# Altium integrated library Linear Technology Power Management LED Driver ICs.IntLib: 490 symbols (part 22 of 48)
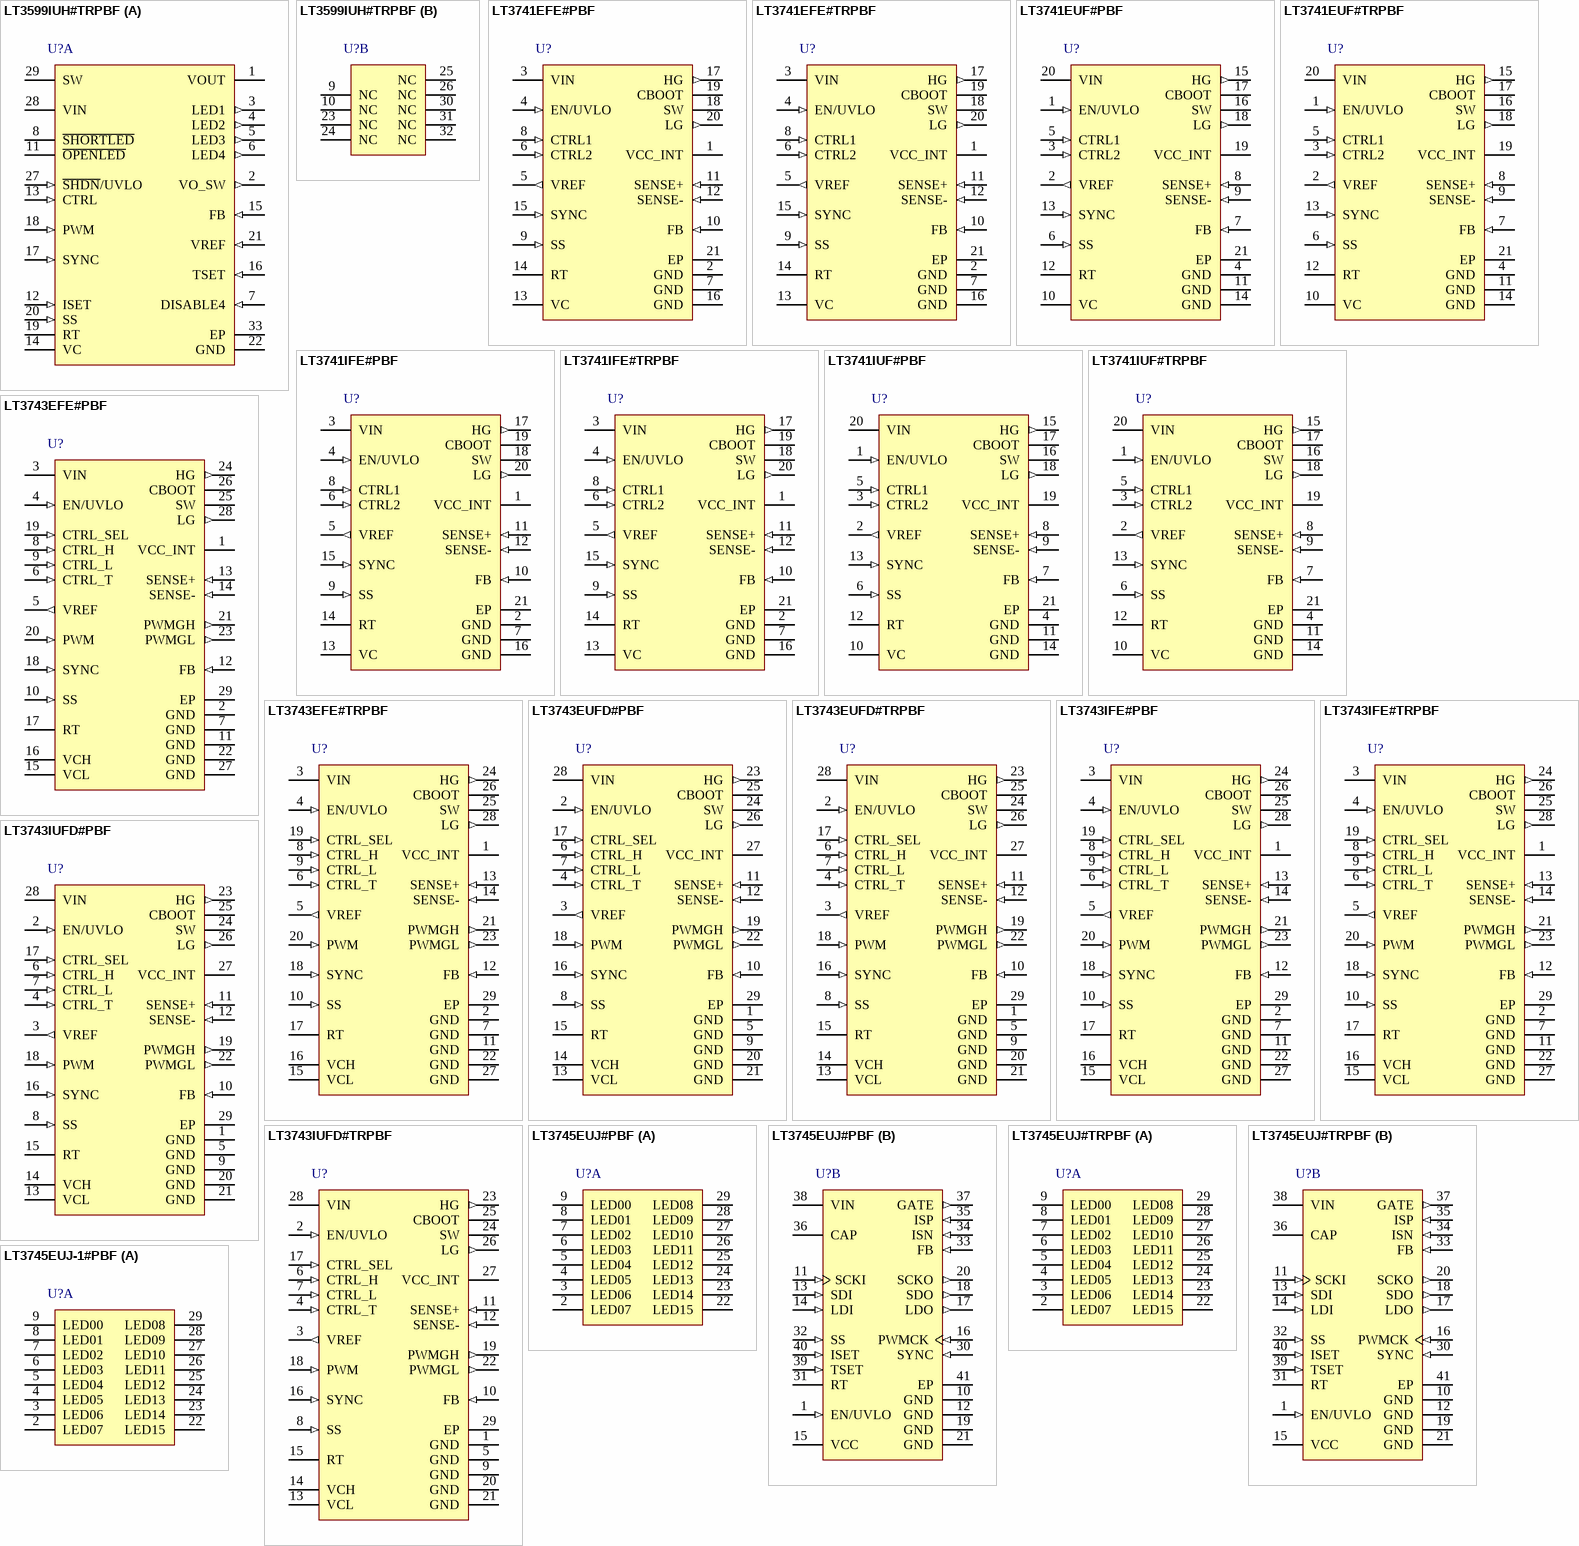
[diagram p41: symbols LT3599IUH#TRPBF to LT3745EUJ-1#PBF]

## LT3743EUFD#PBF
designator U?
High Current Synchronous Step-Down LED Driver with Three-State Control, 6 to 36 V Vin, 28-pin QFN (UFD-28), -40 to 125 degC, Pb-Free; Manufacturer: Linear Technology; PartNumber: LT3743EUFD#PBF; Topology: Buck, LED Driver; Vin Min(V): 6; DatasheetVersion: Rev. D; PackageVersion: Rev. B, 06/2010; PackageReference: UFD-28; PackageDescription: 28-Pin Plastic QFN, Body 5 x 4 mm, Pitch 0.5 mm; Supplier 1: Digi-Key; Supplier Part Number 1: LT3743EUFD#PBF-ND; Supplier 2: Farnell; Supplier Part Number 2: 1839163; Supplier 3: Newark; Supplier Part Number 3: 52R9877; RoHS: TRUE; Mounting Technology: Surface Mount; Code_JEDEC: MO-220; ComponentLink1Description: Manufacturer URL; ComponentLink1URL: http://www.linear.com/; ComponentLink2Description: Datasheet; ComponentLink2URL: http://cds.linear.com/docs/en/datasheet/3743fd.pdf; ComponentLink3Description: Package Specification; ComponentLink3URL: http://cds.linear.com/docs/en/packaging/QFN_28_05-08-1712.pdf
footprint LT-UFD-28_N (QFN, 28-Leads, Body 5.1x4.1mm, Pitch 0.5mm, Thermal Pad 3.65x2.65mm, IPC Medium Density)
footprint LT-UFD-28_L (QFN, 28-Leads, Body 5.1x4.1mm, Pitch 0.5mm, Thermal Pad 3.65x2.65mm, IPC High Density)
footprint LT-UFD-28_M (QFN, 28-Leads, Body 5.1x4.1mm, Pitch 0.5mm, Thermal Pad 3.65x2.65mm, IPC Low Density)
pins: 1 GND (power) "Ground.", 2 EN/UVLO (in) "Enable Pin. The EN / UVLO pin acts as an enable pin and turns on the internal current bias core and subregulators at 1.55 V. The pin does not have any pull-up or pull-down, requiring a voltage bias for normal part operation. (See Datasheet)", 3 VREF (out) "Buffered 2 V Reference Capable of 0.5 mA Drive.", 4 CTRL_T (in) "The thermal control input to reduce the regulated current level for both current levels (CTRL_L and CTRL_H).", 5 GND (power) "Ground.", 6 CTRL_H (in) "The CTRL_H pin sets the high level regulated output current and overcurrent. The maximum input voltage is internally clamped to 1.5 V. The overcurrent set point is equal to the high level regulated current level set by the (See Datasheet)", 7 CTRL_L (in) "The CTRL_L pin sets the low level regulated output current. It is not recommended that the CTRL_L voltage be higher than the CTRL_H voltage.", 8 SS (in) "Soft-Start Pin. Place an external capacitor to ground to limit the regulated current during start-up conditions. The SS pin has a 5.5 uA charging current. This pin controls both of the regulated inputs determined by CTRL_L (See Datasheet)", 9 GND (power) "Ground.", 10 FB (in) "Feedback Pin for Overvoltage Protec- tion. The feedback voltage is 1 V. Overvoltage / Open LED is sensed through the FB pin. When the feedback voltage exceeds 1.3 V, the overvoltage lockout prevents switching and connects (See Datasheet)", 11 SENSE+ (in) "SENSE+ is the inverting input of the average current mode loop error amplifier. This pin is connected to the external current sense resistor, RS. The voltage drop between SENSE+ and SENSE- referenced to the voltage drop (See Datasheet)", 12 SENSE- (in) "SENSE- is the noninverting input of the average current mode loop error amplifier. The reference current, based on CTRL_L or CTRL_H flows out of the pin to the output (LED) side of the sense resistor, RS.", 13 VCL "VCL provides the necessary compensation for the average current loop stability during low level current regulation. Typical compensation values are 15 k to 80 k for the resistor and 2 nF to 10 nF for the capacitor.", 14 VCH "VCH provides the necessary compensation for the average current loop stability during high level current regulation. Typical compensation values are 15k to 80 k for the resistor and 2 nF to 10 nF for the capacitor.", 15 RT "A resistor to ground sets the switching frequency between 200 kHz and 1 MHz. When using the SYNC function, set the frequency to be 20% lower than the SYNC pulse frequency. This pin is current limited to 60 uA. Do not leave (See Datasheet)", 16 SYNC (in) "Frequency Synchronization Pin. This pin allows the switching frequency to be synchronized to an external clock. The RT resistor should be chosen to operate the internal clock at 20% slower than the SYNC pulse frequency. The (See Datasheet)", 17 CTRL_SEL (in) "The CTRL_SEL pin selects between the high current control, CTRL_H and the low current control, CTRL_L. When high, the V CH pin is con- nected to the error amp output and the PWMGH gate signal is high. When low, the VCL pin (See Datasheet)", 18 PWM (in) "The input pin for PWM dimming of the LED. When low, all switching is terminated and the output caps are disconnected. This pin should be pulled to VCC_INT when not in use.", 19 PWMGH (out) "The PWMGH output pin drives the gate of an external FET to connect one of the switching regulator output capacitors to the load. The driver pull-up impedance is 3.2 ohm and pull-down impedance is 1.75 ohm.", 20 GND (power) "Ground.", 21 GND (power) "Ground.", 22 PWMGL (out) "The PWMGL output pin drives the gate of an external FET to connect one of the switching regulator output capacitors to the load. The driver pull-up impedance is 3.2 ohm and pull-down impedance is 1.75 ohm.", 23 HG (out) "HG is the top FET gate drive signal that controls the state of the high side external power FET. The driver pull-up impedance is 2.3 ohm and pull-down impedance is 1.3 ohm.", 24 SW "The SW pin is used internally as the lower rail for the floating high side driver. Externally, this node connects the two power FETs and the inductor.", 25 CBOOT (power) "The CBOOT pin provides a floating 5 V regulated supply for the high side FET driver. An external Schottky diode is required from the VCC_INT pin to the CBOOT pin to charge the CBOOT capacitor when the switch pin is near (See Datasheet)", 26 LG (out) "LG is the bottom FET gate drive signal that controls the state of the low side external power FET. The driver pull-up impedance is 2.5 ohm and pull-down impedance is 1.3 ohm.", 27 VCC_INT (power) "A regulated 5 V output for charging the CBOOT capacitor. VCC_INT also provides the power for the digital and switching subcircuits. Below 6 V VIN , tie this pin to the rail. VCC_INT is current limited to  approx=50 mA. (See Datasheet)", 28 VIN (power) "Input Supply Pin. Must be locally bypassed with a 1 uF low ESR capacitor to ground.", 29 EP (power) "Ground. The exposed pad must be soldered to the PCB."

## LT3743EUFD#TRPBF
designator U?
High Current Synchronous Step-Down LED Driver with Three-State Control, 6 to 36 V Vin, 28-pin QFN (UFD-28), -40 to 125 degC, Pb-Free, Tape and Reel; Manufacturer: Linear Technology; PartNumber: LT3743EUFD#TRPBF; Topology: Buck, LED Driver; Vin Min(V): 6; DatasheetVersion: Rev. D; PackageVersion: Rev. B, 06/2010; PackageReference: UFD-28; PackageDescription: 28-Pin Plastic QFN, Body 5 x 4 mm, Pitch 0.5 mm; Supplier 1: Digi-Key; Supplier Part Number 1: LT3743EUFD#TRPBF-ND; Supplier 2: Newark; Supplier Part Number 2: 72R5829; Packing: Tape and Reel; RoHS: TRUE; Mounting Technology: Surface Mount; Code_JEDEC: MO-220; ComponentLink1Description: Manufacturer URL; ComponentLink1URL: http://www.linear.com/; ComponentLink2Description: Datasheet; ComponentLink2URL: http://cds.linear.com/docs/en/datasheet/3743fd.pdf; ComponentLink3Description: Package Specification; ComponentLink3URL: http://cds.linear.com/docs/en/packaging/QFN_28_05-08-1712.pdf
footprint LT-UFD-28_N (QFN, 28-Leads, Body 5.1x4.1mm, Pitch 0.5mm, Thermal Pad 3.65x2.65mm, IPC Medium Density)
footprint LT-UFD-28_L (QFN, 28-Leads, Body 5.1x4.1mm, Pitch 0.5mm, Thermal Pad 3.65x2.65mm, IPC High Density)
footprint LT-UFD-28_M (QFN, 28-Leads, Body 5.1x4.1mm, Pitch 0.5mm, Thermal Pad 3.65x2.65mm, IPC Low Density)
pins: 1 GND (power) "Ground.", 2 EN/UVLO (in) "Enable Pin. The EN / UVLO pin acts as an enable pin and turns on the internal current bias core and subregulators at 1.55 V. The pin does not have any pull-up or pull-down, requiring a voltage bias for normal part operation. (See Datasheet)", 3 VREF (out) "Buffered 2 V Reference Capable of 0.5 mA Drive.", 4 CTRL_T (in) "The thermal control input to reduce the regulated current level for both current levels (CTRL_L and CTRL_H).", 5 GND (power) "Ground.", 6 CTRL_H (in) "The CTRL_H pin sets the high level regulated output current and overcurrent. The maximum input voltage is internally clamped to 1.5 V. The overcurrent set point is equal to the high level regulated current level set by the (See Datasheet)", 7 CTRL_L (in) "The CTRL_L pin sets the low level regulated output current. It is not recommended that the CTRL_L voltage be higher than the CTRL_H voltage.", 8 SS (in) "Soft-Start Pin. Place an external capacitor to ground to limit the regulated current during start-up conditions. The SS pin has a 5.5 uA charging current. This pin controls both of the regulated inputs determined by CTRL_L (See Datasheet)", 9 GND (power) "Ground.", 10 FB (in) "Feedback Pin for Overvoltage Protec- tion. The feedback voltage is 1 V. Overvoltage / Open LED is sensed through the FB pin. When the feedback voltage exceeds 1.3 V, the overvoltage lockout prevents switching and connects (See Datasheet)", 11 SENSE+ (in) "SENSE+ is the inverting input of the average current mode loop error amplifier. This pin is connected to the external current sense resistor, RS. The voltage drop between SENSE+ and SENSE- referenced to the voltage drop (See Datasheet)", 12 SENSE- (in) "SENSE- is the noninverting input of the average current mode loop error amplifier. The reference current, based on CTRL_L or CTRL_H flows out of the pin to the output (LED) side of the sense resistor, RS.", 13 VCL "VCL provides the necessary compensation for the average current loop stability during low level current regulation. Typical compensation values are 15 k to 80 k for the resistor and 2 nF to 10 nF for the capacitor.", 14 VCH "VCH provides the necessary compensation for the average current loop stability during high level current regulation. Typical compensation values are 15k to 80 k for the resistor and 2 nF to 10 nF for the capacitor.", 15 RT "A resistor to ground sets the switching frequency between 200 kHz and 1 MHz. When using the SYNC function, set the frequency to be 20% lower than the SYNC pulse frequency. This pin is current limited to 60 uA. Do not leave (See Datasheet)", 16 SYNC (in) "Frequency Synchronization Pin. This pin allows the switching frequency to be synchronized to an external clock. The RT resistor should be chosen to operate the internal clock at 20% slower than the SYNC pulse frequency. The (See Datasheet)", 17 CTRL_SEL (in) "The CTRL_SEL pin selects between the high current control, CTRL_H and the low current control, CTRL_L. When high, the V CH pin is con- nected to the error amp output and the PWMGH gate signal is high. When low, the VCL pin (See Datasheet)", 18 PWM (in) "The input pin for PWM dimming of the LED. When low, all switching is terminated and the output caps are disconnected. This pin should be pulled to VCC_INT when not in use.", 19 PWMGH (out) "The PWMGH output pin drives the gate of an external FET to connect one of the switching regulator output capacitors to the load. The driver pull-up impedance is 3.2 ohm and pull-down impedance is 1.75 ohm.", 20 GND (power) "Ground.", 21 GND (power) "Ground.", 22 PWMGL (out) "The PWMGL output pin drives the gate of an external FET to connect one of the switching regulator output capacitors to the load. The driver pull-up impedance is 3.2 ohm and pull-down impedance is 1.75 ohm.", 23 HG (out) "HG is the top FET gate drive signal that controls the state of the high side external power FET. The driver pull-up impedance is 2.3 ohm and pull-down impedance is 1.3 ohm.", 24 SW "The SW pin is used internally as the lower rail for the floating high side driver. Externally, this node connects the two power FETs and the inductor.", 25 CBOOT (power) "The CBOOT pin provides a floating 5 V regulated supply for the high side FET driver. An external Schottky diode is required from the VCC_INT pin to the CBOOT pin to charge the CBOOT capacitor when the switch pin is near (See Datasheet)", 26 LG (out) "LG is the bottom FET gate drive signal that controls the state of the low side external power FET. The driver pull-up impedance is 2.5 ohm and pull-down impedance is 1.3 ohm.", 27 VCC_INT (power) "A regulated 5 V output for charging the CBOOT capacitor. VCC_INT also provides the power for the digital and switching subcircuits. Below 6 V VIN , tie this pin to the rail. VCC_INT is current limited to  approx=50 mA. (See Datasheet)", 28 VIN (power) "Input Supply Pin. Must be locally bypassed with a 1 uF low ESR capacitor to ground.", 29 EP (power) "Ground. The exposed pad must be soldered to the PCB."

## LT3743IFE#PBF
designator U?
High Current Synchronous Step-Down LED Driver with Three-State Control, 6 to 36 V Vin, 28-pin SOP (FE-28-EPV-EB), -40 to 125 degC, Pb-Free; Manufacturer: Linear Technology; PartNumber: LT3743IFE#PBF; Topology: Buck, LED Driver; Vin Min(V): 6; DatasheetVersion: Rev. D; PackageVersion: Rev. J, 11/2012; PackageReference: FE-28; PackageDescription: 28-Pin Plastic TSSOP, Body 9.7 x 4.4 mm, Pitch 0.65 mm; Supplier 1: Digi-Key; Supplier Part Number 1: LT3743IFE#PBF-ND; Supplier 2: Farnell; Supplier Part Number 2: 1866378; Supplier 3: Newark; Supplier Part Number 3: 72R5830; RoHS: TRUE; Mounting Technology: Surface Mount; ComponentLink1Description: Manufacturer URL; ComponentLink1URL: http://www.linear.com/; ComponentLink2Description: Datasheet; ComponentLink2URL: http://cds.linear.com/docs/en/datasheet/3743fd.pdf; ComponentLink3Description: Package Specification; ComponentLink3URL: http://cds.linear.com/docs/en/packaging/05081663__J_FE28(EB).pdf
footprint LT-FE-28-EPV-EB_N (SOP, 28-Leads, Body 9.8x4.5mm, Pitch 0.65mm, Thermal Pad 4.75x2.74mm, IPC Medium Density)
footprint LT-FE-28-EPV-EB_L (SOP, 28-Leads, Body 9.8x4.5mm, Pitch 0.65mm, Thermal Pad 4.75x2.74mm, IPC High Density)
footprint LT-FE-28-EPV-EB_M (SOP, 28-Leads, Body 9.8x4.5mm, Pitch 0.65mm, Thermal Pad 4.75x2.74mm, IPC Low Density)
pins: 1 VCC_INT (power) "A regulated 5V output for charging the CBOOT capacitor. VCC_INT also provides the power for the digital and switching subcircuits. Below 6V VIN, tie this pin to the rail. VCC_INT is current limited to  approx=50mA. Shutdown (See Datasheet)", 2 GND (power) "Ground.", 3 VIN (power) "Input Supply Pin. Must be locally bypassed with a 1uF low ESR capacitor to ground.", 4 EN/UVLO (in) "Enable Pin. The EN/UVLO pin acts as an enable pin and turns on the internal current bias core and subregulators at 1.55V. The pin does not have any pull-up or pull-down, requiring a voltage bias for normal part operation. (See Datasheet)", 5 VREF (out) "Buffered 2V Reference Capable of 0.5mA Drive.", 6 CTRL_T (in) "The thermal control input to reduce the regulated current level for both current levels (CTRL_L and CTRL_H).", 7 GND (power) "Ground.", 8 CTRL_H (in) "The CTRL_H pin sets the high level regulated output current and overcurrent. The maximum input voltage is internally clamped to 1.5V. The overcurrent set point is equal to the high level regulated current level set by the (See Datasheet)", 9 CTRL_L (in) "The CTRL_L pin sets the low level regulated output current. It is not recommended that the CTRL_L voltage be higher than the CTRL_H voltage.", 10 SS (in) "Soft-Start Pin. Place an external capacitor to ground to limit the regulated current during start-up conditions. The SS pin has a 5.5uA charging current. This pin controls both of the regulated inputs determined by CTRL_L (See Datasheet)", 11 GND (power) "Ground.", 12 FB (in) "Feedback Pin for Overvoltage Protection. The feedback voltage is 1V. Overvoltage/Open LED is sensed through the FB pin. When the feedback voltage exceeds 1.3V, the overvoltage lockout prevents switching and connects both (See Datasheet)", 13 SENSE+ (in) "SENSE+ is the inverting input of the average current mode loop error amplifier. This pin is connected to the external current sense resistor, RS. The voltage drop between SENSE+ and SENSE- referenced to the voltage drop (See Datasheet)", 14 SENSE- (in) "SENSE- is the noninverting input of the average current mode loop error amplifier. The reference current, based on CTRL_L or CTRL_H flows out of the pin to the output (LED) side of the sense resistor, RS.", 15 VCL "VCL provides the necessary compensation for the average current loop stability during low level current regulation. Typical compensation values are 15k to 80k for the resistor and 2nF to 10nF for the capacitor.", 16 VCH "VCH provides the necessary compensation for the average current loop stability during high level current regulation. Typical compensation values are 15k to 80k for the resistor and 2nF to 10nF for the capacitor.", 17 RT "A resistor to ground sets the switching frequency between 200kHz and 1MHz. When using the SYNC function, set the frequency to be 20% lower than the SYNC pulse frequency. This pin is current limited to 60uA. Do not leave this (See Datasheet)", 18 SYNC (in) "Frequency Synchronization Pin. This pin allows the switching frequency to be synchronized to an external clock. The RT resistor should be chosen to operate the internal clock at 20% slower than the SYNC pulse frequency. The (See Datasheet)", 19 CTRL_SEL (in) "The CTRL_SEL pin selects between the high current control, CTRL_H and the low current control, CTRL_L. When high, the VCH pin is connected to the error amp output and the PWMGH gate signal is high. When low, the VCL pin is (See Datasheet)", 20 PWM (in) "The input pin for PWM dimming of the LED. When low, all switching is terminated and the output caps are disconnected. This pin should be pulled to VCC_INT when not in use.", 21 PWMGH (out) "The PWMGH output pin drives the gate of an external FET to connect one of the switching regulator output capacitors to the load. The driver pull-up impedance is 3.2ohm and pull-down impedance is 1.75ohm.", 22 GND (power) "Ground.", 23 PWMGL (out) "The PWMGL output pin drives the gate of an external FET to connect one of the switching regulator output capacitors to the load. The driver pull-up impedance is 3.2ohm and pull-down impedance is 1.75ohm.", 24 HG (out) "HG is the top FET gate drive signal that controls the state of the high side external power FET. The driver pull-up impedance is 2.3ohm and pull-down impedance is 1.3ohm.", 25 SW "The SW pin is used internally as the lower rail for the floating high side driver. Externally, this node connects the two power FETs and the inductor.", 26 CBOOT (power) "The CBOOT pin provides a floating 5V regulated supply for the high side FET driver. An external Schottky diode is required from the VCC_INT pin to the CBOOT pin to charge the CBOOT capacitor when the switch pin is near (See Datasheet)", 27 GND (power) "Ground.", 28 LG (out) "LG is the bottom FET gate drive signal that controls the state of the low side external power FET. The driver pull-up impedance is 2.5ohm and pull-down impedance is 1.3ohm.", 29 EP (power) "Ground. The exposed pad must be soldered to the PCB."

## LT3743IFE#TRPBF
designator U?
High Current Synchronous Step-Down LED Driver with Three-State Control, 6 to 36 V Vin, 28-pin SOP (FE-28-EPV-EB), -40 to 125 degC, Pb-Free, Tape and Reel; Manufacturer: Linear Technology; PartNumber: LT3743IFE#TRPBF; Topology: Buck, LED Driver; Vin Min(V): 6; DatasheetVersion: Rev. D; PackageVersion: Rev. J, 11/2012; PackageReference: FE-28; PackageDescription: 28-Pin Plastic TSSOP, Body 9.7 x 4.4 mm, Pitch 0.65 mm; Supplier 1: Digi-Key; Supplier Part Number 1: LT3743IFE#TRPBF-ND; Packing: Tape and Reel; RoHS: TRUE; Mounting Technology: Surface Mount; ComponentLink1Description: Manufacturer URL; ComponentLink1URL: http://www.linear.com/; ComponentLink2Description: Datasheet; ComponentLink2URL: http://cds.linear.com/docs/en/datasheet/3743fd.pdf; ComponentLink3Description: Package Specification; ComponentLink3URL: http://cds.linear.com/docs/en/packaging/05081663__J_FE28(EB).pdf
footprint LT-FE-28-EPV-EB_N (SOP, 28-Leads, Body 9.8x4.5mm, Pitch 0.65mm, Thermal Pad 4.75x2.74mm, IPC Medium Density)
footprint LT-FE-28-EPV-EB_L (SOP, 28-Leads, Body 9.8x4.5mm, Pitch 0.65mm, Thermal Pad 4.75x2.74mm, IPC High Density)
footprint LT-FE-28-EPV-EB_M (SOP, 28-Leads, Body 9.8x4.5mm, Pitch 0.65mm, Thermal Pad 4.75x2.74mm, IPC Low Density)
pins: 1 VCC_INT (power) "A regulated 5V output for charging the CBOOT capacitor. VCC_INT also provides the power for the digital and switching subcircuits. Below 6V VIN, tie this pin to the rail. VCC_INT is current limited to  approx=50mA. Shutdown (See Datasheet)", 2 GND (power) "Ground.", 3 VIN (power) "Input Supply Pin. Must be locally bypassed with a 1uF low ESR capacitor to ground.", 4 EN/UVLO (in) "Enable Pin. The EN/UVLO pin acts as an enable pin and turns on the internal current bias core and subregulators at 1.55V. The pin does not have any pull-up or pull-down, requiring a voltage bias for normal part operation. (See Datasheet)", 5 VREF (out) "Buffered 2V Reference Capable of 0.5mA Drive.", 6 CTRL_T (in) "The thermal control input to reduce the regulated current level for both current levels (CTRL_L and CTRL_H).", 7 GND (power) "Ground.", 8 CTRL_H (in) "The CTRL_H pin sets the high level regulated output current and overcurrent. The maximum input voltage is internally clamped to 1.5V. The overcurrent set point is equal to the high level regulated current level set by the (See Datasheet)", 9 CTRL_L (in) "The CTRL_L pin sets the low level regulated output current. It is not recommended that the CTRL_L voltage be higher than the CTRL_H voltage.", 10 SS (in) "Soft-Start Pin. Place an external capacitor to ground to limit the regulated current during start-up conditions. The SS pin has a 5.5uA charging current. This pin controls both of the regulated inputs determined by CTRL_L (See Datasheet)", 11 GND (power) "Ground.", 12 FB (in) "Feedback Pin for Overvoltage Protection. The feedback voltage is 1V. Overvoltage/Open LED is sensed through the FB pin. When the feedback voltage exceeds 1.3V, the overvoltage lockout prevents switching and connects both (See Datasheet)", 13 SENSE+ (in) "SENSE+ is the inverting input of the average current mode loop error amplifier. This pin is connected to the external current sense resistor, RS. The voltage drop between SENSE+ and SENSE- referenced to the voltage drop (See Datasheet)", 14 SENSE- (in) "SENSE- is the noninverting input of the average current mode loop error amplifier. The reference current, based on CTRL_L or CTRL_H flows out of the pin to the output (LED) side of the sense resistor, RS.", 15 VCL "VCL provides the necessary compensation for the average current loop stability during low level current regulation. Typical compensation values are 15k to 80k for the resistor and 2nF to 10nF for the capacitor.", 16 VCH "VCH provides the necessary compensation for the average current loop stability during high level current regulation. Typical compensation values are 15k to 80k for the resistor and 2nF to 10nF for the capacitor.", 17 RT "A resistor to ground sets the switching frequency between 200kHz and 1MHz. When using the SYNC function, set the frequency to be 20% lower than the SYNC pulse frequency. This pin is current limited to 60uA. Do not leave this (See Datasheet)", 18 SYNC (in) "Frequency Synchronization Pin. This pin allows the switching frequency to be synchronized to an external clock. The RT resistor should be chosen to operate the internal clock at 20% slower than the SYNC pulse frequency. The (See Datasheet)", 19 CTRL_SEL (in) "The CTRL_SEL pin selects between the high current control, CTRL_H and the low current control, CTRL_L. When high, the VCH pin is connected to the error amp output and the PWMGH gate signal is high. When low, the VCL pin is (See Datasheet)", 20 PWM (in) "The input pin for PWM dimming of the LED. When low, all switching is terminated and the output caps are disconnected. This pin should be pulled to VCC_INT when not in use.", 21 PWMGH (out) "The PWMGH output pin drives the gate of an external FET to connect one of the switching regulator output capacitors to the load. The driver pull-up impedance is 3.2ohm and pull-down impedance is 1.75ohm.", 22 GND (power) "Ground.", 23 PWMGL (out) "The PWMGL output pin drives the gate of an external FET to connect one of the switching regulator output capacitors to the load. The driver pull-up impedance is 3.2ohm and pull-down impedance is 1.75ohm.", 24 HG (out) "HG is the top FET gate drive signal that controls the state of the high side external power FET. The driver pull-up impedance is 2.3ohm and pull-down impedance is 1.3ohm.", 25 SW "The SW pin is used internally as the lower rail for the floating high side driver. Externally, this node connects the two power FETs and the inductor.", 26 CBOOT (power) "The CBOOT pin provides a floating 5V regulated supply for the high side FET driver. An external Schottky diode is required from the VCC_INT pin to the CBOOT pin to charge the CBOOT capacitor when the switch pin is near (See Datasheet)", 27 GND (power) "Ground.", 28 LG (out) "LG is the bottom FET gate drive signal that controls the state of the low side external power FET. The driver pull-up impedance is 2.5ohm and pull-down impedance is 1.3ohm.", 29 EP (power) "Ground. The exposed pad must be soldered to the PCB."

## LT3743IUFD#PBF
designator U?
High Current Synchronous Step-Down LED Driver with Three-State Control, 6 to 36 V Vin, 28-pin QFN (UFD-28), -40 to 125 degC, Pb-Free; Manufacturer: Linear Technology; PartNumber: LT3743IUFD#PBF; Topology: Buck, LED Driver; Vin Min(V): 6; DatasheetVersion: Rev. D; PackageVersion: Rev. B, 06/2010; PackageReference: UFD-28; PackageDescription: 28-Pin Plastic QFN, Body 5 x 4 mm, Pitch 0.5 mm; Supplier 1: Digi-Key; Supplier Part Number 1: LT3743IUFD#PBF-ND; Supplier 2: Newark; Supplier Part Number 2: 72R5832; RoHS: TRUE; Mounting Technology: Surface Mount; Code_JEDEC: MO-220; ComponentLink1Description: Manufacturer URL; ComponentLink1URL: http://www.linear.com/; ComponentLink2Description: Datasheet; ComponentLink2URL: http://cds.linear.com/docs/en/datasheet/3743fd.pdf; ComponentLink3Description: Package Specification; ComponentLink3URL: http://cds.linear.com/docs/en/packaging/QFN_28_05-08-1712.pdf
footprint LT-UFD-28_N (QFN, 28-Leads, Body 5.1x4.1mm, Pitch 0.5mm, Thermal Pad 3.65x2.65mm, IPC Medium Density)
footprint LT-UFD-28_L (QFN, 28-Leads, Body 5.1x4.1mm, Pitch 0.5mm, Thermal Pad 3.65x2.65mm, IPC High Density)
footprint LT-UFD-28_M (QFN, 28-Leads, Body 5.1x4.1mm, Pitch 0.5mm, Thermal Pad 3.65x2.65mm, IPC Low Density)
pins: 1 GND (power) "Ground.", 2 EN/UVLO (in) "Enable Pin. The EN / UVLO pin acts as an enable pin and turns on the internal current bias core and subregulators at 1.55 V. The pin does not have any pull-up or pull-down, requiring a voltage bias for normal part operation. (See Datasheet)", 3 VREF (out) "Buffered 2 V Reference Capable of 0.5 mA Drive.", 4 CTRL_T (in) "The thermal control input to reduce the regulated current level for both current levels (CTRL_L and CTRL_H).", 5 GND (power) "Ground.", 6 CTRL_H (in) "The CTRL_H pin sets the high level regulated output current and overcurrent. The maximum input voltage is internally clamped to 1.5 V. The overcurrent set point is equal to the high level regulated current level set by the (See Datasheet)", 7 CTRL_L (in) "The CTRL_L pin sets the low level regulated output current. It is not recommended that the CTRL_L voltage be higher than the CTRL_H voltage.", 8 SS (in) "Soft-Start Pin. Place an external capacitor to ground to limit the regulated current during start-up conditions. The SS pin has a 5.5 uA charging current. This pin controls both of the regulated inputs determined by CTRL_L (See Datasheet)", 9 GND (power) "Ground.", 10 FB (in) "Feedback Pin for Overvoltage Protec- tion. The feedback voltage is 1 V. Overvoltage / Open LED is sensed through the FB pin. When the feedback voltage exceeds 1.3 V, the overvoltage lockout prevents switching and connects (See Datasheet)", 11 SENSE+ (in) "SENSE+ is the inverting input of the average current mode loop error amplifier. This pin is connected to the external current sense resistor, RS. The voltage drop between SENSE+ and SENSE- referenced to the voltage drop (See Datasheet)", 12 SENSE- (in) "SENSE- is the noninverting input of the average current mode loop error amplifier. The reference current, based on CTRL_L or CTRL_H flows out of the pin to the output (LED) side of the sense resistor, RS.", 13 VCL "VCL provides the necessary compensation for the average current loop stability during low level current regulation. Typical compensation values are 15 k to 80 k for the resistor and 2 nF to 10 nF for the capacitor.", 14 VCH "VCH provides the necessary compensation for the average current loop stability during high level current regulation. Typical compensation values are 15k to 80 k for the resistor and 2 nF to 10 nF for the capacitor.", 15 RT "A resistor to ground sets the switching frequency between 200 kHz and 1 MHz. When using the SYNC function, set the frequency to be 20% lower than the SYNC pulse frequency. This pin is current limited to 60 uA. Do not leave (See Datasheet)", 16 SYNC (in) "Frequency Synchronization Pin. This pin allows the switching frequency to be synchronized to an external clock. The RT resistor should be chosen to operate the internal clock at 20% slower than the SYNC pulse frequency. The (See Datasheet)", 17 CTRL_SEL (in) "The CTRL_SEL pin selects between the high current control, CTRL_H and the low current control, CTRL_L. When high, the V CH pin is con- nected to the error amp output and the PWMGH gate signal is high. When low, the VCL pin (See Datasheet)", 18 PWM (in) "The input pin for PWM dimming of the LED. When low, all switching is terminated and the output caps are disconnected. This pin should be pulled to VCC_INT when not in use.", 19 PWMGH (out) "The PWMGH output pin drives the gate of an external FET to connect one of the switching regulator output capacitors to the load. The driver pull-up impedance is 3.2 ohm and pull-down impedance is 1.75 ohm.", 20 GND (power) "Ground.", 21 GND (power) "Ground.", 22 PWMGL (out) "The PWMGL output pin drives the gate of an external FET to connect one of the switching regulator output capacitors to the load. The driver pull-up impedance is 3.2 ohm and pull-down impedance is 1.75 ohm.", 23 HG (out) "HG is the top FET gate drive signal that controls the state of the high side external power FET. The driver pull-up impedance is 2.3 ohm and pull-down impedance is 1.3 ohm.", 24 SW "The SW pin is used internally as the lower rail for the floating high side driver. Externally, this node connects the two power FETs and the inductor.", 25 CBOOT (power) "The CBOOT pin provides a floating 5 V regulated supply for the high side FET driver. An external Schottky diode is required from the VCC_INT pin to the CBOOT pin to charge the CBOOT capacitor when the switch pin is near (See Datasheet)", 26 LG (out) "LG is the bottom FET gate drive signal that controls the state of the low side external power FET. The driver pull-up impedance is 2.5 ohm and pull-down impedance is 1.3 ohm.", 27 VCC_INT (power) "A regulated 5 V output for charging the CBOOT capacitor. VCC_INT also provides the power for the digital and switching subcircuits. Below 6 V VIN , tie this pin to the rail. VCC_INT is current limited to  approx=50 mA. (See Datasheet)", 28 VIN (power) "Input Supply Pin. Must be locally bypassed with a 1 uF low ESR capacitor to ground.", 29 EP (power) "Ground. The exposed pad must be soldered to the PCB."

## LT3743IUFD#TRPBF
designator U?
High Current Synchronous Step-Down LED Driver with Three-State Control, 6 to 36 V Vin, 28-pin QFN (UFD-28), -40 to 125 degC, Pb-Free, Tape and Reel; Manufacturer: Linear Technology; PartNumber: LT3743IUFD#TRPBF; Topology: Buck, LED Driver; Vin Min(V): 6; DatasheetVersion: Rev. D; PackageVersion: Rev. B, 06/2010; PackageReference: UFD-28; PackageDescription: 28-Pin Plastic QFN, Body 5 x 4 mm, Pitch 0.5 mm; Supplier 1: Digi-Key; Supplier Part Number 1: LT3743IUFD#TRPBF-ND; Packing: Tape and Reel; RoHS: TRUE; Mounting Technology: Surface Mount; Code_JEDEC: MO-220; ComponentLink1Description: Manufacturer URL; ComponentLink1URL: http://www.linear.com/; ComponentLink2Description: Datasheet; ComponentLink2URL: http://cds.linear.com/docs/en/datasheet/3743fd.pdf; ComponentLink3Description: Package Specification; ComponentLink3URL: http://cds.linear.com/docs/en/packaging/QFN_28_05-08-1712.pdf
footprint LT-UFD-28_N (QFN, 28-Leads, Body 5.1x4.1mm, Pitch 0.5mm, Thermal Pad 3.65x2.65mm, IPC Medium Density)
footprint LT-UFD-28_L (QFN, 28-Leads, Body 5.1x4.1mm, Pitch 0.5mm, Thermal Pad 3.65x2.65mm, IPC High Density)
footprint LT-UFD-28_M (QFN, 28-Leads, Body 5.1x4.1mm, Pitch 0.5mm, Thermal Pad 3.65x2.65mm, IPC Low Density)
pins: 1 GND (power) "Ground.", 2 EN/UVLO (in) "Enable Pin. The EN / UVLO pin acts as an enable pin and turns on the internal current bias core and subregulators at 1.55 V. The pin does not have any pull-up or pull-down, requiring a voltage bias for normal part operation. (See Datasheet)", 3 VREF (out) "Buffered 2 V Reference Capable of 0.5 mA Drive.", 4 CTRL_T (in) "The thermal control input to reduce the regulated current level for both current levels (CTRL_L and CTRL_H).", 5 GND (power) "Ground.", 6 CTRL_H (in) "The CTRL_H pin sets the high level regulated output current and overcurrent. The maximum input voltage is internally clamped to 1.5 V. The overcurrent set point is equal to the high level regulated current level set by the (See Datasheet)", 7 CTRL_L (in) "The CTRL_L pin sets the low level regulated output current. It is not recommended that the CTRL_L voltage be higher than the CTRL_H voltage.", 8 SS (in) "Soft-Start Pin. Place an external capacitor to ground to limit the regulated current during start-up conditions. The SS pin has a 5.5 uA charging current. This pin controls both of the regulated inputs determined by CTRL_L (See Datasheet)", 9 GND (power) "Ground.", 10 FB (in) "Feedback Pin for Overvoltage Protec- tion. The feedback voltage is 1 V. Overvoltage / Open LED is sensed through the FB pin. When the feedback voltage exceeds 1.3 V, the overvoltage lockout prevents switching and connects (See Datasheet)", 11 SENSE+ (in) "SENSE+ is the inverting input of the average current mode loop error amplifier. This pin is connected to the external current sense resistor, RS. The voltage drop between SENSE+ and SENSE- referenced to the voltage drop (See Datasheet)", 12 SENSE- (in) "SENSE- is the noninverting input of the average current mode loop error amplifier. The reference current, based on CTRL_L or CTRL_H flows out of the pin to the output (LED) side of the sense resistor, RS.", 13 VCL "VCL provides the necessary compensation for the average current loop stability during low level current regulation. Typical compensation values are 15 k to 80 k for the resistor and 2 nF to 10 nF for the capacitor.", 14 VCH "VCH provides the necessary compensation for the average current loop stability during high level current regulation. Typical compensation values are 15k to 80 k for the resistor and 2 nF to 10 nF for the capacitor.", 15 RT "A resistor to ground sets the switching frequency between 200 kHz and 1 MHz. When using the SYNC function, set the frequency to be 20% lower than the SYNC pulse frequency. This pin is current limited to 60 uA. Do not leave (See Datasheet)", 16 SYNC (in) "Frequency Synchronization Pin. This pin allows the switching frequency to be synchronized to an external clock. The RT resistor should be chosen to operate the internal clock at 20% slower than the SYNC pulse frequency. The (See Datasheet)", 17 CTRL_SEL (in) "The CTRL_SEL pin selects between the high current control, CTRL_H and the low current control, CTRL_L. When high, the V CH pin is con- nected to the error amp output and the PWMGH gate signal is high. When low, the VCL pin (See Datasheet)", 18 PWM (in) "The input pin for PWM dimming of the LED. When low, all switching is terminated and the output caps are disconnected. This pin should be pulled to VCC_INT when not in use.", 19 PWMGH (out) "The PWMGH output pin drives the gate of an external FET to connect one of the switching regulator output capacitors to the load. The driver pull-up impedance is 3.2 ohm and pull-down impedance is 1.75 ohm.", 20 GND (power) "Ground.", 21 GND (power) "Ground.", 22 PWMGL (out) "The PWMGL output pin drives the gate of an external FET to connect one of the switching regulator output capacitors to the load. The driver pull-up impedance is 3.2 ohm and pull-down impedance is 1.75 ohm.", 23 HG (out) "HG is the top FET gate drive signal that controls the state of the high side external power FET. The driver pull-up impedance is 2.3 ohm and pull-down impedance is 1.3 ohm.", 24 SW "The SW pin is used internally as the lower rail for the floating high side driver. Externally, this node connects the two power FETs and the inductor.", 25 CBOOT (power) "The CBOOT pin provides a floating 5 V regulated supply for the high side FET driver. An external Schottky diode is required from the VCC_INT pin to the CBOOT pin to charge the CBOOT capacitor when the switch pin is near (See Datasheet)", 26 LG (out) "LG is the bottom FET gate drive signal that controls the state of the low side external power FET. The driver pull-up impedance is 2.5 ohm and pull-down impedance is 1.3 ohm.", 27 VCC_INT (power) "A regulated 5 V output for charging the CBOOT capacitor. VCC_INT also provides the power for the digital and switching subcircuits. Below 6 V VIN , tie this pin to the rail. VCC_INT is current limited to  approx=50 mA. (See Datasheet)", 28 VIN (power) "Input Supply Pin. Must be locally bypassed with a 1 uF low ESR capacitor to ground.", 29 EP (power) "Ground. The exposed pad must be soldered to the PCB."

## LT3745EUJ#PBF
designator U?
16-Channel 50 mA LED Driver with Buck Controller, TTL / CMOS Serial Data Interface, 6 to 55 V Vin, 36 V Vout MAX, 40-pin QFN (UJ-40), -40 to 125 degC, Pb-Free; Manufacturer: Linear Technology; PartNumber: LT3745EUJ#PBF; Topology: Buck, LED Driver; Vin Min(V): 6; PackageVersion: Rev. Ø, 06/2010; PackageReference: UJ-40; PackageDescription: 40-Pin Plastic QFN, Body 6 x 6 mm, Pitch 0.5 mm; Supplier 1: Digi-Key; Supplier Part Number 1: LT3745EUJ#PBF-ND; Supplier 2: Farnell; Supplier Part Number 2: 2097871; RoHS: TRUE; Mounting Technology: Surface Mount; ComponentLink1Description: Manufacturer URL; ComponentLink1URL: http://www.linear.com/; ComponentLink2Description: Datasheet; ComponentLink2URL: http://cds.linear.com/docs/en/datasheet/3745f.pdf; ComponentLink3Description: Package Specification; ComponentLink3URL: http://cds.linear.com/docs/en/packaging/QFN_40_05-08-1728.pdf
footprint LT-UJ-40_N (QFN, 40-Leads, Body 6.1x6.1mm, Pitch 0.5mm, Thermal Pad 4.42x4.42mm, IPC Medium Density)
footprint LT-UJ-40_L (QFN, 40-Leads, Body 6.1x6.1mm, Pitch 0.5mm, Thermal Pad 4.42x4.42mm, IPC High Density)
footprint LT-UJ-40_M (QFN, 40-Leads, Body 6.1x6.1mm, Pitch 0.5mm, Thermal Pad 4.42x4.42mm, IPC Low Density)
part A pins: 2 LED07 (power) "LED Driver Output Pins. Connect the cathodes of LED strings to these pins.", 3 LED06 (power) "LED Driver Output Pins. Connect the cathodes of LED strings to these pins.", 4 LED05 (power) "LED Driver Output Pins. Connect the cathodes of LED strings to these pins.", 5 LED04 (power) "LED Driver Output Pins. Connect the cathodes of LED strings to these pins.", 6 LED03 (power) "LED Driver Output Pins. Connect the cathodes of LED strings to these pins.", 7 LED02 (power) "LED Driver Output Pins. Connect the cathodes of LED strings to these pins.", 8 LED01 (power) "LED Driver Output Pins. Connect the cathodes of LED strings to these pins.", 9 LED00 (power) "LED Driver Output Pins. Connect the cathodes of LED strings to these pins.", 22 LED15 (power) "LED Driver Output Pins. Connect the cathodes of LED strings to these pins.", 23 LED14 (power) "LED Driver Output Pins. Connect the cathodes of LED strings to these pins.", 24 LED13 (power) "LED Driver Output Pins. Connect the cathodes of LED strings to these pins.", 25 LED12 (power) "LED Driver Output Pins. Connect the cathodes of LED strings to these pins.", 26 LED11 (power) "LED Driver Output Pins. Connect the cathodes of LED strings to these pins.", 27 LED10 (power) "LED Driver Output Pins. Connect the cathodes of LED strings to these pins.", 28 LED09 (power) "LED Driver Output Pins. Connect the cathodes of LED strings to these pins.", 29 LED08 (power) "LED Driver Output Pins. Connect the cathodes of LED strings to these pins."
part B pins: 1 EN/UVLO (in) "Enable and Undervoltage Lockout (UVLO) Pin. The pin can accept a digital input signal to enable or disable the chip. Tie to 0.35V or lower to shut down the chip or tie to 1.34V or higher for normal operation. This pin can (See Datasheet)", 10 GND (power) "Ground Pin.", 11 SCKI (in) "Serial Interface TTL/CMOS Logic Clock Input Pin.", 12 GND (power) "Ground Pin.", 13 SDI (in) "Serial Interface TTL/CMOS Logic Data Input Pin.", 14 LDI (in) "Serial Interface TTL/CMOS Logic Latch Input Pin. An asynchronous input signal at this pin latches the serial data in the shift registers into the proper registers and the status information is ready to shift out with the (See Datasheet)", 15 VCC (power) "Logic and Control Supply Pin. The pin powers serial data interface and internal control circuitry. Must be locally bypassed with a capacitor to ground.", 16 PWMCK (in) "Grayscale PWM Dimming TTL/CMOS Logic Clock Pin. Individual PWM dimming signal is generated by counting this clock pulse from zero to the bits in its 12-bit grayscale PWM register.", 17 LDO (out) "Serial Interface TTL/CMOS Logic Latch Output Pin.", 18 SDO (out) "Serial Interface TTL/CMOS Logic Data Output Pins.", 19 GND (power) "Ground Pin.", 20 SCKO (out) "Serial Interface TTL/CMOS Logic Clock Output Pins.", 21 GND (power) "Serial Interface TTL/CMOS Logic Clock Output Pins.", 30 SYNC (in) "Switching Frequency Synchronization Pin. Synchronizes the internal oscillator frequency to an external clock applied to the SYNC pin. The SYNC pin is TTL/ CMOS logic compatible. Tie to ground or VCC if not used.", 31 RT "Timing Resistor Pin. Programs the switching frequency from 200kHz to 1MHz. See Table 2 for the recommended RT values for common switching frequencies.", 32 SS (in) "Soft-Start Pin. Placing a capacitor here programs soft-start timing to limit inductor inrush current during start-up. The soft-start cycle will not begin until all the VCC, EN/UVLO, and (VIN-VCAP) voltages are higher than (See Datasheet)", 33 FB (in) "Feedback Pin. The pin is regulated to the internal bang-gap reference 1.210V during start-up and precharging phases. Connect to a resistor divider from the buck converter output to program the maximum LED bus voltage. See (See Datasheet)", 34 ISN (in) "Negative Inductor Current Sense Pin. The pin is connected to one terminal of the external inductor current sensing resistor and the buck converter output supplying parallel LED channels.", 35 ISP (in) "Positive Inductor Current Sense Pin. The pin is connected to the inductor and the other terminal of the external inductor current sensing resistor.", 36 CAP "VIN Referenced Regulator Supply Capacitor Pin. The pin holds the negative terminal of an internal VIN referenced 6.8V linear regulator used to bias the gate driver circuitry. Must be locally bypassed with a capacitor to VIN.", 37 GATE (out) "Gate Driver Pin. The pin drives an external P-channel power MOSFET with a typical peak current of 1A. Connect this pin to the gate of the power MOSFET with a short and wide PCB trace to minimize trace inductance.", 38 VIN (power) "Power Input Supply Pin. Must be locally bypassed with a capacitor to ground.", 39 TSET (in) "Temperature Threshold Setting Pin. A resistor to ground programs overtemperature threshold. See more details in the Applications Information section.", 40 ISET (in) "Nominal LED Current Setting Pin. A resistor to ground programs the nominal LED current for all the channels. See more details in the Applications Information section.", 41 EP (power) "Ground Pin. Must be soldered to a continuous copper ground plane to reduce die temperature and to increase the power capability of the device."